# EAGLE library part ATMEGA644P-20PU (library ATMEGA644P-20PU)
8-bit MCU Source: Datasheet
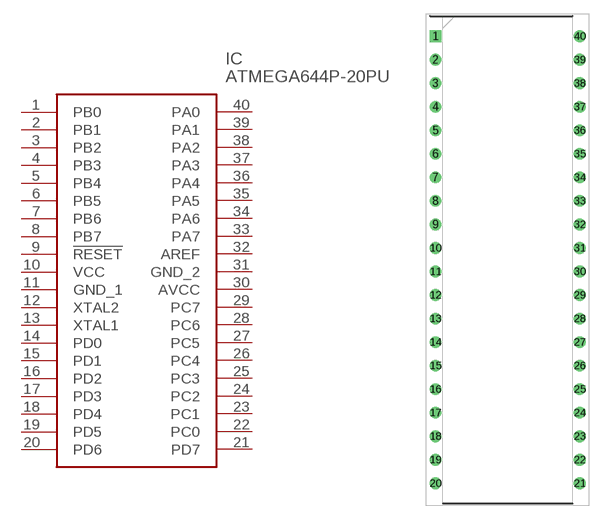
[diagram p0: symbol with the pads of DIP1556W56P254L5232H483Q40N; footprint DIP1556W56P254L5232H483Q40N]

Designator prefix IC

## ATMEGA644P-20PU (Description: 8-bit MCU; Height: 4.826mm; Manufacturer_Name: Microchip; Manufacturer_Part_Number: ATMEGA644P-20PU; Mouser_Part_Number: 556-ATMEGA644P-20PU; Mouser_Price-Stock: https://www.mouser.co.uk/ProductDetail/Microchip-Technology-Atmel/ATMEGA644P-20PU?qs=b1J4i6otjZszsgv9nk2ACg%3D%3D)  [DIP1556W56P254L5232H483Q40N]
1  PB0
2  PB1
3  PB2
4  PB3
5  PB4
6  PB5
7  PB6
8  PB7
9  !RESET
10  VCC
11  GND_1
12  XTAL2
13  XTAL1
14  PD0
15  PD1
16  PD2
17  PD3
18  PD4
19  PD5
20  PD6
21  PD7
22  PC0
23  PC1
24  PC2
25  PC3
26  PC4
27  PC5
28  PC6
29  PC7
30  AVCC
31  GND_2
32  AREF
33  PA7
34  PA6
35  PA5
36  PA4
37  PA3
38  PA2
39  PA1
40  PA0

## Footprint DIP1556W56P254L5232H483Q40N (pad centres in mm)
40-PDIP
drill 0.759 pad 1.159 square: 1 -7.779,24.13
drill 0.759 pad 1.159: 2 -7.779,21.59; 3 -7.779,19.05; 4 -7.779,16.51; 5 -7.779,13.97; 6 -7.779,11.43; 7 -7.779,8.89; 8 -7.779,6.35; 9 -7.779,3.81; 10 -7.779,1.27; 11 -7.779,-1.27; 12 -7.779,-3.81; 13 -7.779,-6.35; 14 -7.779,-8.89; 15 -7.779,-11.43; 16 -7.779,-13.97; 17 -7.779,-16.51; 18 -7.779,-19.05; 19 -7.779,-21.59; 20 -7.779,-24.13; 21 7.779,-24.13; 22 7.779,-21.59; 23 7.779,-19.05; 24 7.779,-16.51; 25 7.779,-13.97; 26 7.779,-11.43; 27 7.779,-8.89; 28 7.779,-6.35; 29 7.779,-3.81; 30 7.779,-1.27; 31 7.779,1.27; 32 7.779,3.81; 33 7.779,6.35; 34 7.779,8.89; 35 7.779,11.43; 36 7.779,13.97; 37 7.779,16.51; 38 7.779,19.05; 39 7.779,21.59; 40 7.779,24.13